# EAGLE library part PGA2311 (library ICs)
Very high performance volume control solution. SPI controlled, mute, crossing detect. SOL16.
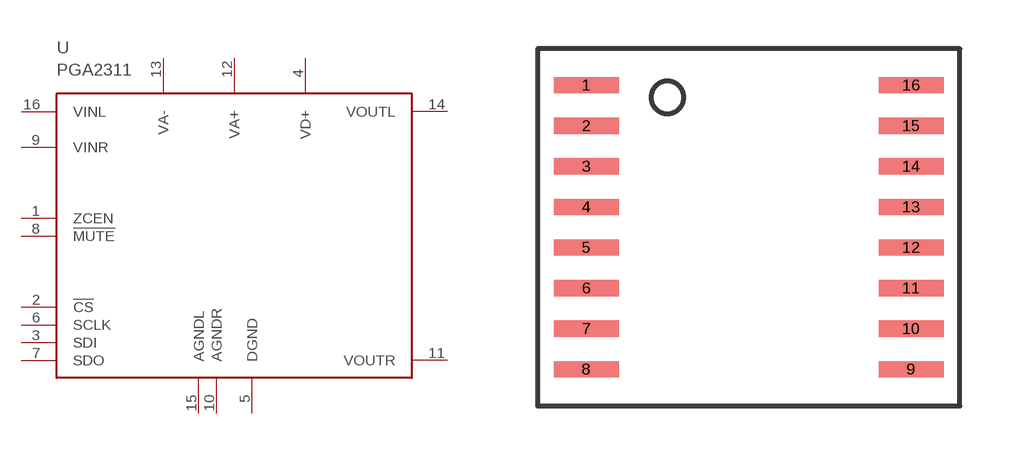
[diagram p25: symbol with the pads of SOL16; footprint SOL16]

Designator prefix U

## PGA2311UA (DIGIKEY: PGA2311UA-ND; HEIGHT: 4; PRICE_PER: 8.56; VALUE: PGA2311)  [SOL16]
1  ZCEN
2  !CS
3  SDI
4  VD+
5  DGND
6  SCLK
7  SDO
8  !MUTE
9  VINR
10  AGNDR
11  VOUTR
12  VA+
13  VA-
14  VOUTL
15  AGNDL
16  VINL

## Footprint SOL16 (pad centres in mm)
smd 2 x 0.5: 1 -5,4.375; 2 -5,3.125; 3 -5,1.875; 4 -5,0.625; 5 -5,-0.625; 6 -5,-1.875; 7 -5,-3.125; 8 -5,-4.375; 9 5,-4.375; 10 5,-3.125; 11 5,-1.875; 12 5,-0.625; 13 5,0.625; 14 5,1.875; 15 5,3.125; 16 5,4.375